# Altium footprint library DLW21SN121HQ2L.PcbLib: 1 footprints
Each footprint in its own frame and in the unit in brackets; x right, y up, seen from the top. Pads: shape width x height; smd on the part's side, far side on the other; paste and mask are expansions set on the pad; w line width, h text height; cw(c..) or ccw(c..) is an arc to the next point about the centre after c.
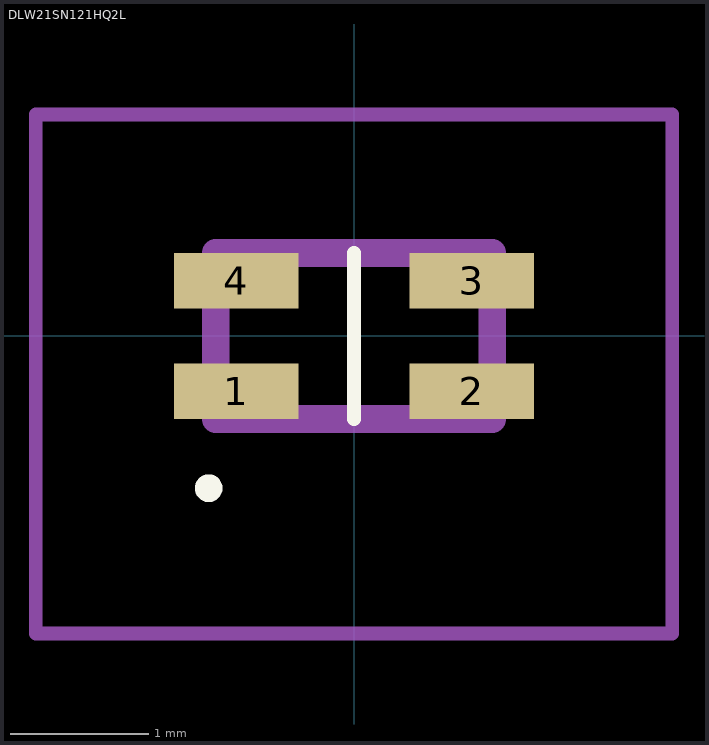
[diagram p0: the footprint, top view; thin cyan lines are the x and y axes]

## DLW21SN121HQ2L [mm]
pads (4):
  rect 0.9x0.4 smd: 1(-0.85,-0.4) 2(0.85,-0.4) 3(0.85,0.4) 4(-0.85,0.4)
Top Overlay:
  lines w0.1: -1.1,-1.1 cw(c-1.05,-1.1) -1,-1.1 ; -1.1,-1.1 -1.1,-1.1 ; -1.1,-1.1 ccw(c-1.05,-1.1) -1,-1.1 ; -1,-1.1 -1,-1.1 ; 0,-0.6 0,0.6 0,-0.6
Mechanical 15:
  lines w0.2: -1,-0.6 1,-0.6 1,0.6 -1,0.6 -1,-0.6
Mechanical 20:
  lines w0.1: -2.3,-2.15 2.3,-2.15 2.3,1.6 -2.3,1.6 -2.3,-2.15